# Altium schematic symbol library DMN3007LSSQ-13.SchLib: 1 symbol
Pins are listed as number, name and electrical type; pins without a type are passive.

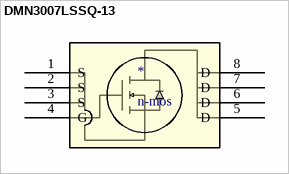
[diagram p0: symbol DMN3007LSSQ-13]

## DMN3007LSSQ-13
designator *, comment n-mos
MOSFET MOSFETBVDSS: 25V-30V
footprint D0008A-IPC_A
pins: 1 S, 2 S, 3 S, 4 G, 5 D, 6 D, 7 D, 8 D